# Altium schematic symbol library 100046138_power.SchLib: 13 symbols
Pins are listed as number, name and electrical type; pins without a type are passive.

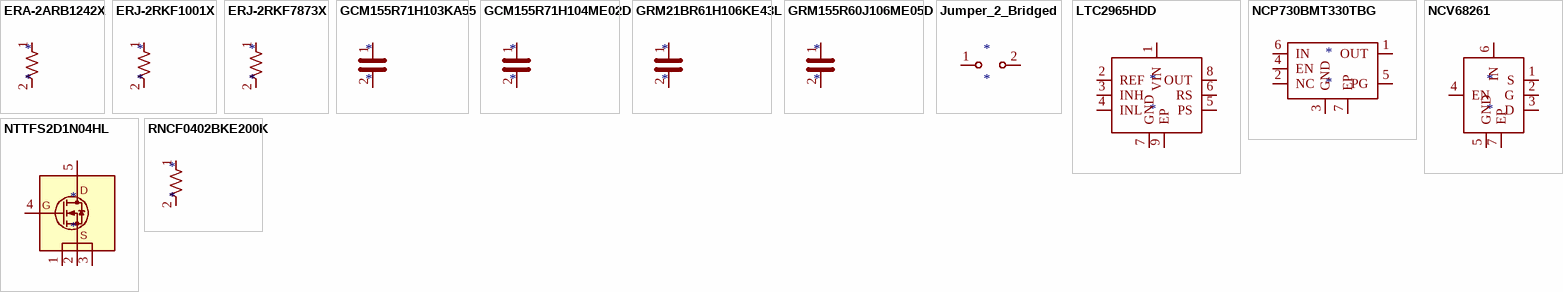
[diagram p0: symbols ERA-2ARB1242X to RNCF0402BKE200K]

## ERA-2ARB1242X
designator *
pins: 1, 2

## ERJ-2RKF1001X
designator *
pins: 1, 2

## ERJ-2RKF7873X
designator *
pins: 1, 2

## GCM155R71H103KA55
designator *
pins: 1, 2

## GCM155R71H104ME02D
designator *
pins: 1, 2

## GRM21BR61H106KE43L
designator *
pins: 1, 2

## GRM155R60J106ME05D
designator *
pins: 1, 2

## Jumper_2_Bridged
designator *
pins: 1 A, 2 B

## LTC2965HDD
designator *
pins: 1 VIN, 2 REF, 3 INH, 4 INL, 5 PS, 6 RS, 7 GND, 8 OUT, 9 EP

## NCP730BMT330TBG
designator *
pins: 1 OUT, 2 NC, 3 GND, 4 EN, 5 PG, 6 IN, 7 EP

## NCV68261
designator *
pins: 1 S, 2 G, 3 D, 4 EN, 5 GND, 6 IN, 7 EP

## NTTFS2D1N04HL
designator *
pins: 1 S, 2 S, 3 S, 4 G, 5 D

## RNCF0402BKE200K
designator *
pins: 1, 2